# EAGLE library part AS5047D-ATSM (library parts_v26_edits)
ams AS5047D-ATSM Hall Effect Sensor 14-Pin TSSOP, 3 3.6 V, 4.5 5.5 V Source: Datasheet <http://ams.com/eng/content/download/595083/1609657/320155>
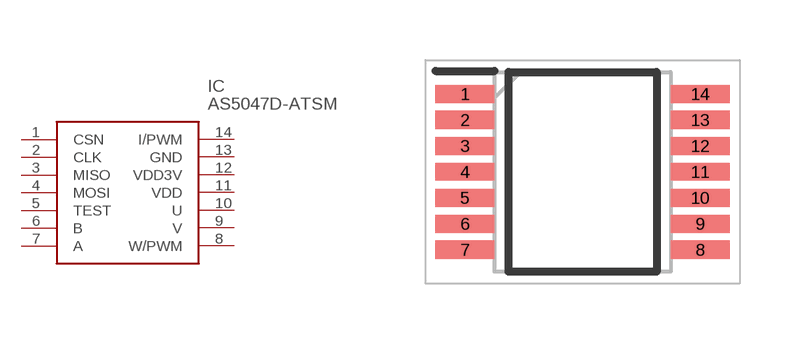
[diagram p0: symbol with the pads of SOP65P640X120-14N; footprint SOP65P640X120-14N]

Designator prefix IC

## AS5047D-ATSM (DESCRIPTION: ams AS5047D-ATSM Hall Effect Sensor 14-Pin TSSOP, 3 3.6 V, 4.5 5.5 V; HEIGHT: 1.2mm; MANUFACTURER_NAME: ams; MANUFACTURER_PART_NUMBER: AS5047D-ATSM; MOUSER_PART_NUMBER: 985-AS5047D-ATSM; MOUSER_PRICE-STOCK: https://www.mouser.com/Search/Refine.aspx?Keyword=985-AS5047D-ATSM; RS_PART_NUMBER: 1700756; RS_PRICE-STOCK: http://uk.rs-online.com/web/p/products/1700756)  [SOP65P640X120-14N]
1  CSN
2  CLK
3  MISO
4  MOSI
5  TEST
6  B
7  A
8  W/PWM
9  V
10  U
11  VDD
12  VDD3V
13  GND
14  I/PWM

## Footprint SOP65P640X120-14N (pad centres in mm)
AS5047D
smd 1.475 x 0.45: 1 -2.938,1.95; 2 -2.938,1.3; 3 -2.938,0.65; 4 -2.938,0; 5 -2.938,-0.65; 6 -2.938,-1.3; 7 -2.938,-1.95; 8 2.938,-1.95; 9 2.938,-1.3; 10 2.938,-0.65; 11 2.938,0; 12 2.938,0.65; 13 2.938,1.3; 14 2.938,1.95